# Altium schematic symbol library Module.Transceivers.SchLib: 5 symbols
Pins are listed as number, name and electrical type; pins without a type are passive.

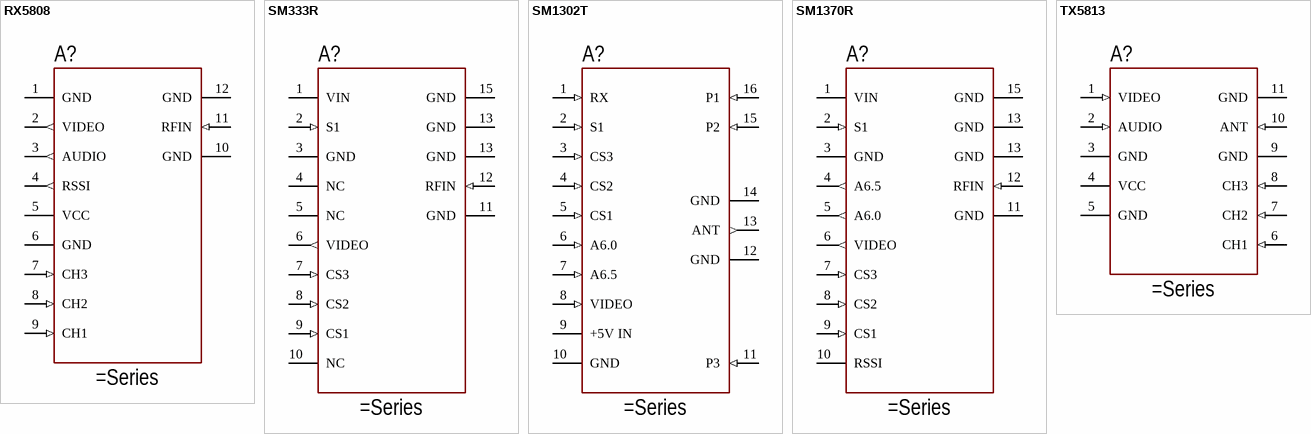
[diagram p0: symbols RX5808 to TX5813]

## RX5808
designator A?
RX5808 Receiver Schematic Symbol
pins: 1 GND, 2 VIDEO (out), 3 AUDIO (out), 4 RSSI (out), 5 VCC, 6 GND, 7 CH3 (in), 8 CH2 (in), 9 CH1 (in), 10 GND, 11 RFIN (in), 12 GND

## SM333R
designator A?
SM333R Receiver Schematic Symbol
pins: 1 VIN, 2 S1 (in), 3 GND, 4 NC, 5 NC, 6 VIDEO (out), 7 CS3 (in), 8 CS2 (in), 9 CS1 (in), 10 NC, 11 GND, 12 RFIN (in), 13 GND, 13 GND, 15 GND

## SM1302T
designator A?
SM1302T Transmitter Schematic Symbol
pins: 1 RX (in), 2 S1 (in), 3 CS3 (in), 4 CS2 (in), 5 CS1 (in), 6 A6.0 (in), 7 A6.5 (in), 8 VIDEO (in), 9 +5V IN, 10 GND, 11 P3 (in), 12 GND, 13 ANT (out), 14 GND, 15 P2 (in), 16 P1 (in)

## SM1370R
designator A?
SM1370R Receiver Schematic Symbol
pins: 1 VIN, 2 S1 (in), 3 GND, 4 A6.5 (out), 5 A6.0 (out), 6 VIDEO (out), 7 CS3 (in), 8 CS2 (in), 9 CS1 (in), 10 RSSI, 11 GND, 12 RFIN (in), 13 GND, 13 GND, 15 GND

## TX5813
designator A?
TX5813 Transmitter Schematic Symbol
pins: 1 VIDEO (in), 2 AUDIO (in), 3 GND, 4 VCC, 5 GND, 6 CH1 (in), 7 CH2 (in), 8 CH3 (in), 9 GND, 10 ANT (in), 11 GND